# Altium footprint library PHOENIX_1757242.PcbLib: 1 footprints
Each footprint in its own frame and in the unit in brackets; x right, y up, seen from the top. Pads: shape width x height; smd on the part's side, far side on the other; paste and mask are expansions set on the pad; w line width, h text height; cw(c..) or ccw(c..) is an arc to the next point about the centre after c.
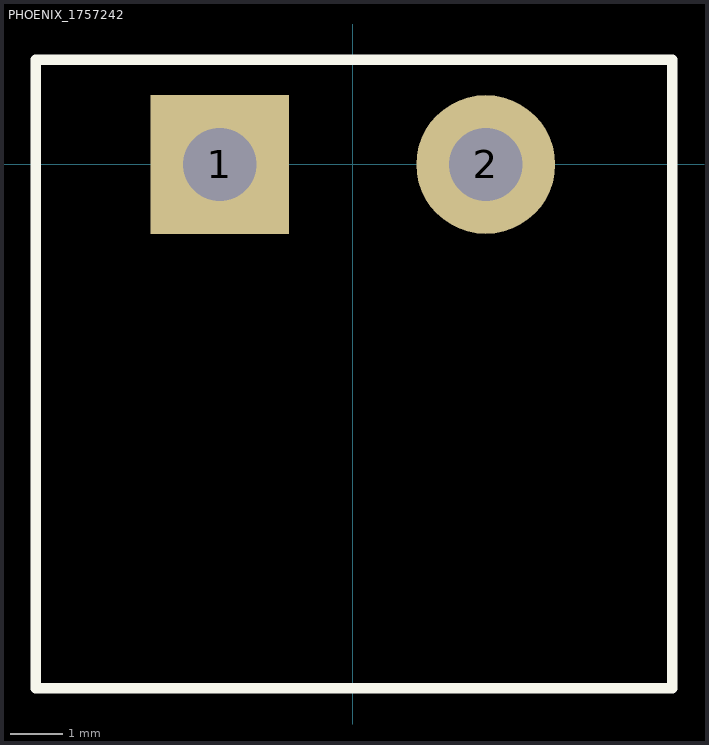
[diagram p0: the footprint, top view; thin cyan lines are the x and y axes]

## PHOENIX_1757242 [mm]
pads (2):
  rect 2.65x2.65 hole 1.4: 1(-2.54,0)
  round 2.65 hole 1.4: 2(2.54,0)
Top Overlay:
  lines w0.2: -6.05,-10 6.1,-10 6.1,2 -6.05,2 -6.05,-10
3D body "pxc_1757242_06_MSTBA-2-5-2-G-5-08_3D.stp": height 8.6, standoff -3.5, extent -6.04,-10 6.12,2.002